# Altium integrated library NSC LDO.IntLib: 1202 symbols (part 15 of 27)
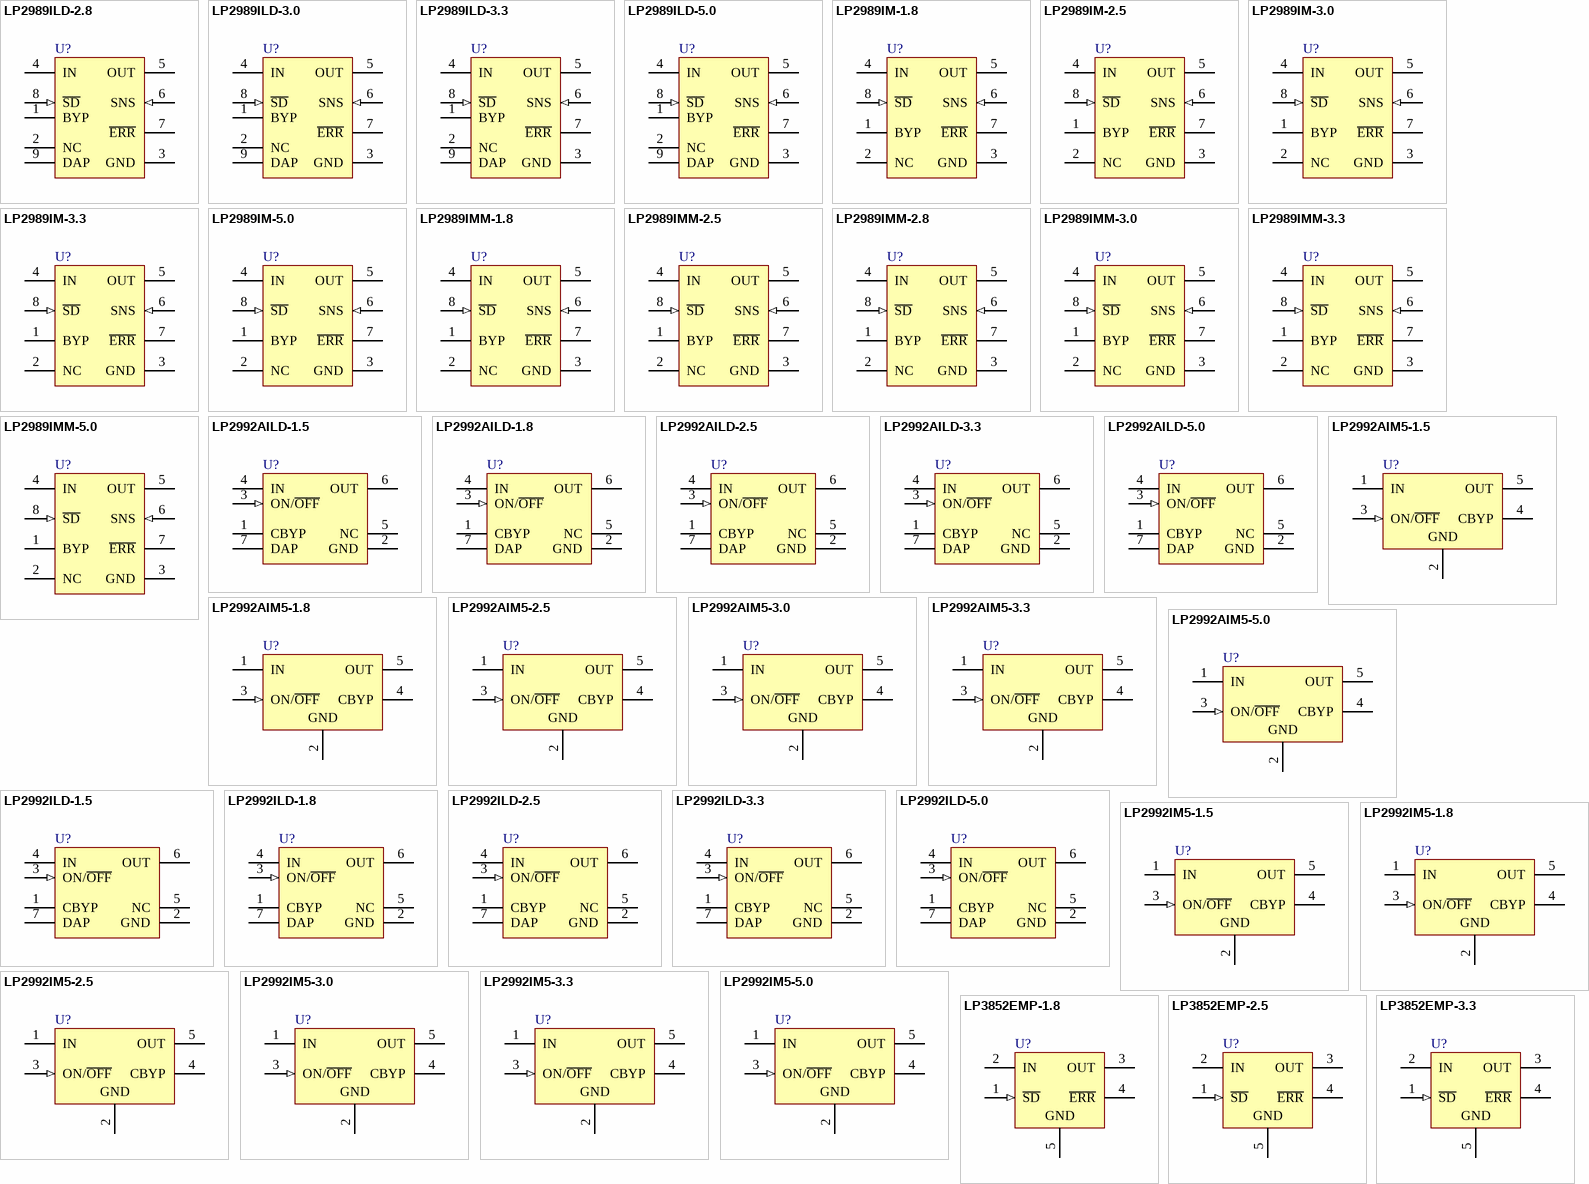
[diagram p44: symbols LP2989ILD-2.8 to LP3852EMP-3.3]

## LP2992IM5-5.0
designator U?
Micropower 250 mA Low-Noise Ultra Low-Dropout Regulator in SOT-23 and LLP Packages; PartNumber: LP2992IM5-5.0; Manufacturer: National Semiconductor; CompType: LDO IC; PackageTopMarking: LFFB*XTT; Published: 4-Dec-2008; DatasheetVersion: May-2005; PackageVersion: revD, Aug-2008; PackageReference: MF05A; Publisher: Altium Limited; PackageDescription: Molded SOT-23, .115 x .063 x .040 in Body, 5 Lead, .0375 in Pitch; RoHS: O; PinCount: 5; DigiKeyPartNumber: LP2992IM5-5.0CT-ND; Code_IPC: SOT23-5; ComponentLink1Description: LP2992 Datasheet; ComponentLink1URL: http://www.national.com/ds/LP/LP2992.pdf; ComponentLink2Description: LP2992 Web Page; ComponentLink2URL: http://www.national.com/pf/LP/LP2992.html; ComponentLink3Description: MF05A Package Page; ComponentLink3URL: http://www.national.com/packaging/folders/mf05a.html
footprint MF05A_N (SOT23, 5-Leads, Body 2.9x1.6mm, Pitch 0.95mm, Lead Span 2.8mm, IPC Medium Density)
footprint MF05A_L (SOT23, 5-Leads, Body 2.9x1.6mm, Pitch 0.95mm, Lead Span 2.8mm, IPC High Density)
footprint MF05A_M (SOT23, 5-Leads, Body 2.9x1.6mm, Pitch 0.95mm, Lead Span 2.8mm, IPC Low Density)
pins: 1 IN (power), 2 GND (power), 3 ON/~{OFF} (in), 4 CBYP, 5 OUT (power)

## LP3852EMP-1.8
designator U?
1.5A Fast Ultra Low Dropout Linear Regulator; PartNumber: LP3852EMP-1.8; Manufacturer: National Semiconductor; CompType: LDO IC; PackageTopMarking: XYTT*LHTB; Published: 4-Dec-2008; DatasheetVersion: Sep-2006; PackageVersion: revA, Jan-2000; PackageReference: MP05A; Publisher: Altium Limited; PackageDescription: Moldec SOT-223, 6.50 x 3.56 x 1.6mm Body, 5 Lead, 1.5mm Pitch; RoHS: O; PinCount: 5; DigiKeyPartNumber: LP3852EMP-1.8CT-ND; Code_JEDEC: TO-261-AB; Code_IPC: SOT223-5; ComponentLink1Description: LP3852 Datasheet; ComponentLink1URL: http://www.national.com/ds/LP/LP3852.pdf; ComponentLink2Description: LP3852 Web Page; ComponentLink2URL: http://www.national.com/pf/LP/LP3852.html; ComponentLink3Description: MP05A Package Page; ComponentLink3URL: http://www.national.com/packaging/folders/mp05a.html
footprint MP05A_N (SOT223, 5-Leads, Body 6.5x3.5mm, Pitch 1.5mm, Lead Span 7mm, IPC Medium Density)
footprint MP05A_L (SOT223, 5-Leads, Body 6.5x3.5mm, Pitch 1.5mm, Lead Span 7mm, IPC High Density)
footprint MP05A_M (SOT223, 5-Leads, Body 6.5x3.5mm, Pitch 1.5mm, Lead Span 7mm, IPC Low Density)
pins: 1 ~{SD} (in), 2 IN (power), 3 OUT (power), 4 ~{ERR} (oc), 5 GND (power)

## LP3852EMP-2.5
designator U?
1.5A Fast Ultra Low Dropout Linear Regulator; PartNumber: LP3852EMP-2.5; Manufacturer: National Semiconductor; CompType: LDO IC; PackageTopMarking: XYTT*LHUB; Published: 4-Dec-2008; DatasheetVersion: Sep-2006; PackageVersion: revA, Jan-2000; PackageReference: MP05A; Publisher: Altium Limited; PackageDescription: Moldec SOT-223, 6.50 x 3.56 x 1.6mm Body, 5 Lead, 1.5mm Pitch; RoHS: O; PinCount: 5; DigiKeyPartNumber: LP3852EMP-2.5CT-ND; Code_JEDEC: TO-261-AB; Code_IPC: SOT223-5; ComponentLink1Description: LP3852 Datasheet; ComponentLink1URL: http://www.national.com/ds/LP/LP3852.pdf; ComponentLink2Description: LP3852 Web Page; ComponentLink2URL: http://www.national.com/pf/LP/LP3852.html; ComponentLink3Description: MP05A Package Page; ComponentLink3URL: http://www.national.com/packaging/folders/mp05a.html
footprint MP05A_N (SOT223, 5-Leads, Body 6.5x3.5mm, Pitch 1.5mm, Lead Span 7mm, IPC Medium Density)
footprint MP05A_L (SOT223, 5-Leads, Body 6.5x3.5mm, Pitch 1.5mm, Lead Span 7mm, IPC High Density)
footprint MP05A_M (SOT223, 5-Leads, Body 6.5x3.5mm, Pitch 1.5mm, Lead Span 7mm, IPC Low Density)
pins: 1 ~{SD} (in), 2 IN (power), 3 OUT (power), 4 ~{ERR} (oc), 5 GND (power)

## LP3852EMP-3.3
designator U?
1.5A Fast Ultra Low Dropout Linear Regulator; PartNumber: LP3852EMP-3.3; Manufacturer: National Semiconductor; CompType: LDO IC; PackageTopMarking: XYTT*LHVB; Published: 4-Dec-2008; DatasheetVersion: Sep-2006; PackageVersion: revA, Jan-2000; PackageReference: MP05A; Publisher: Altium Limited; PackageDescription: Moldec SOT-223, 6.50 x 3.56 x 1.6mm Body, 5 Lead, 1.5mm Pitch; RoHS: Y; PinCount: 5; DigiKeyPartNumber: LP3852EMP-3.3CT-ND; Code_JEDEC: TO-261-AB; Code_IPC: SOT223-5; ComponentLink1Description: LP3852 Datasheet; ComponentLink1URL: http://www.national.com/ds/LP/LP3852.pdf; ComponentLink2Description: LP3852 Web Page; ComponentLink2URL: http://www.national.com/pf/LP/LP3852.html; ComponentLink3Description: MP05A Package Page; ComponentLink3URL: http://www.national.com/packaging/folders/mp05a.html
footprint MP05A_N (SOT223, 5-Leads, Body 6.5x3.5mm, Pitch 1.5mm, Lead Span 7mm, IPC Medium Density)
footprint MP05A_L (SOT223, 5-Leads, Body 6.5x3.5mm, Pitch 1.5mm, Lead Span 7mm, IPC High Density)
footprint MP05A_M (SOT223, 5-Leads, Body 6.5x3.5mm, Pitch 1.5mm, Lead Span 7mm, IPC Low Density)
pins: 1 ~{SD} (in), 2 IN (power), 3 OUT (power), 4 ~{ERR} (oc), 5 GND (power)

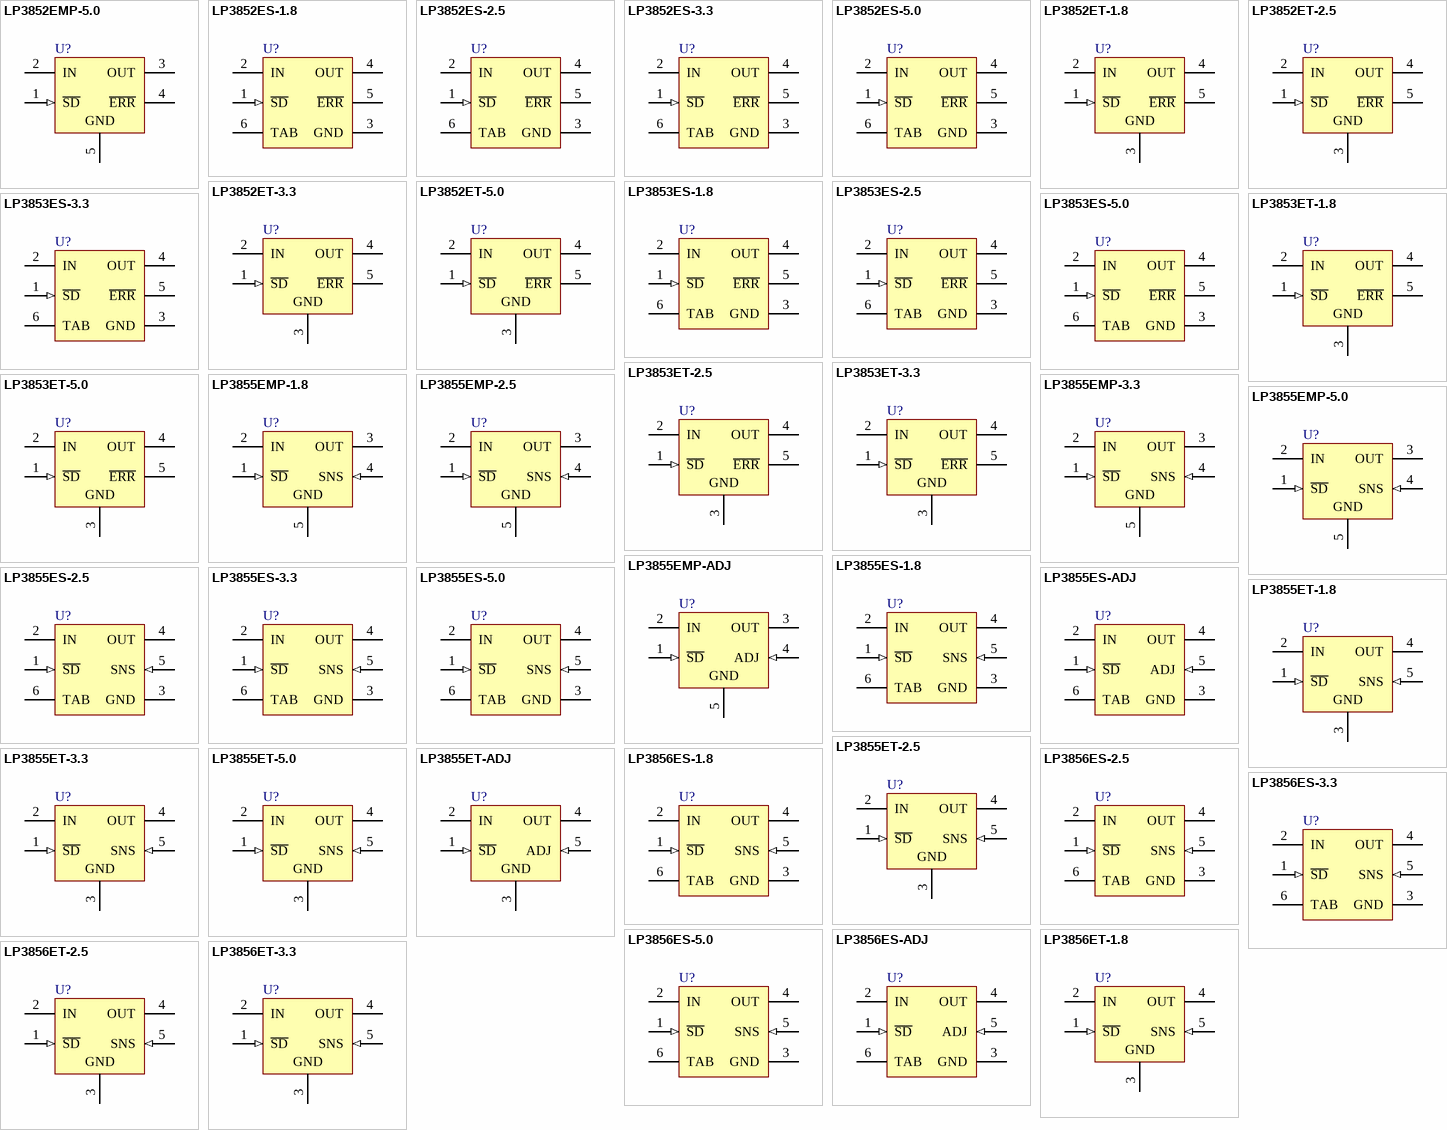
[diagram p16: symbols LP3852EMP-5.0 to LP3856ET-3.3]

## LP3852EMP-5.0
designator U?
1.5A Fast Ultra Low Dropout Linear Regulator; PartNumber: LP3852EMP-5.0; Manufacturer: National Semiconductor; CompType: LDO IC; PackageTopMarking: XYTT*LHXB; Published: 4-Dec-2008; DatasheetVersion: Sep-2006; PackageVersion: revA, Jan-2000; PackageReference: MP05A; Publisher: Altium Limited; PackageDescription: Moldec SOT-223, 6.50 x 3.56 x 1.6mm Body, 5 Lead, 1.5mm Pitch; RoHS: Y; PinCount: 5; DigiKeyPartNumber: LP3852EMP-5.0CT-ND; Code_JEDEC: TO-261-AB; Code_IPC: SOT223-5; ComponentLink1Description: LP3852 Datasheet; ComponentLink1URL: http://www.national.com/ds/LP/LP3852.pdf; ComponentLink2Description: LP3852 Web Page; ComponentLink2URL: http://www.national.com/pf/LP/LP3852.html; ComponentLink3Description: MP05A Package Page; ComponentLink3URL: http://www.national.com/packaging/folders/mp05a.html
footprint MP05A_N (SOT223, 5-Leads, Body 6.5x3.5mm, Pitch 1.5mm, Lead Span 7mm, IPC Medium Density)
footprint MP05A_L (SOT223, 5-Leads, Body 6.5x3.5mm, Pitch 1.5mm, Lead Span 7mm, IPC High Density)
footprint MP05A_M (SOT223, 5-Leads, Body 6.5x3.5mm, Pitch 1.5mm, Lead Span 7mm, IPC Low Density)
pins: 1 ~{SD} (in), 2 IN (power), 3 OUT (power), 4 ~{ERR} (oc), 5 GND (power)

## LP3852ES-1.8
designator U?
1.5A Fast Ultra Low Dropout Linear Regulator; PartNumber: LP3852ES-1.8; Manufacturer: National Semiconductor; CompType: LDO IC; PackageTopMarking: NSUZXYTTE#*LP3852ES*-1.8; Published: 4-Dec-2008; DatasheetVersion: Sep-2006; PackageVersion: revD, Apr-2005; PackageReference: TS5B; Publisher: Altium Limited; PackageDescription: TO-263, Molded, .400 x .390 x .180in, 5 Lead, .067in Pitch, Surface Mount; RoHS: Y; PinCount: 5; DigiKeyPartNumber: LP3852ES-1.8-ND; Code_JEDEC: MO-169-AB; ComponentLink1Description: LP3852 Datasheet; ComponentLink1URL: http://www.national.com/ds/LP/LP3852.pdf; ComponentLink2Description: LP3852 Web Page; ComponentLink2URL: http://www.national.com/pf/LP/LP3852.html; ComponentLink3Description: TS5B Package Page; ComponentLink3URL: http://www.national.com/packaging/folders/ts5b.html
footprint TS5B_N (D2-PAK, 6-Leads, Body 8.6x10.2mm, Pitch 1.7mm, Lead Span 14.1mm, IPC Medium Density)
footprint TS5B_L (D2-PAK, 6-Leads, Body 8.6x10.2mm, Pitch 1.7mm, Lead Span 14.1mm, IPC High Density)
footprint TS5B_M (D2-PAK, 6-Leads, Body 8.6x10.2mm, Pitch 1.7mm, Lead Span 14.1mm, IPC Low Density)
pins: 1 ~{SD} (in), 2 IN (power), 3 GND (power), 4 OUT (power), 5 ~{ERR} (oc), 6 TAB (power)

## LP3852ES-2.5
designator U?
1.5A Fast Ultra Low Dropout Linear Regulator; PartNumber: LP3852ES-2.5; Manufacturer: National Semiconductor; CompType: LDO IC; PackageTopMarking: NSUZXYTTE#*LP3852ES*-2.5; Published: 4-Dec-2008; DatasheetVersion: Sep-2006; PackageVersion: revD, Apr-2005; PackageReference: TS5B; Publisher: Altium Limited; PackageDescription: TO-263, Molded, .400 x .390 x .180in, 5 Lead, .067in Pitch, Surface Mount; RoHS: Y; PinCount: 5; DigiKeyPartNumber: LP3852ES-2.5-ND; Code_JEDEC: MO-169-AB; ComponentLink1Description: LP3852 Datasheet; ComponentLink1URL: http://www.national.com/ds/LP/LP3852.pdf; ComponentLink2Description: LP3852 Web Page; ComponentLink2URL: http://www.national.com/pf/LP/LP3852.html; ComponentLink3Description: TS5B Package Page; ComponentLink3URL: http://www.national.com/packaging/folders/ts5b.html
footprint TS5B_N (D2-PAK, 6-Leads, Body 8.6x10.2mm, Pitch 1.7mm, Lead Span 14.1mm, IPC Medium Density)
footprint TS5B_L (D2-PAK, 6-Leads, Body 8.6x10.2mm, Pitch 1.7mm, Lead Span 14.1mm, IPC High Density)
footprint TS5B_M (D2-PAK, 6-Leads, Body 8.6x10.2mm, Pitch 1.7mm, Lead Span 14.1mm, IPC Low Density)
pins: 1 ~{SD} (in), 2 IN (power), 3 GND (power), 4 OUT (power), 5 ~{ERR} (oc), 6 TAB (power)

## LP3852ES-3.3
designator U?
1.5A Fast Ultra Low Dropout Linear Regulator; PartNumber: LP3852ES-3.3; Manufacturer: National Semiconductor; CompType: LDO IC; PackageTopMarking: NSUZXYTTE#*LP3852ES*-3.3; Published: 4-Dec-2008; DatasheetVersion: Sep-2006; PackageVersion: revD, Apr-2005; PackageReference: TS5B; Publisher: Altium Limited; PackageDescription: TO-263, Molded, .400 x .390 x .180in, 5 Lead, .067in Pitch, Surface Mount; RoHS: Y; PinCount: 5; DigiKeyPartNumber: LP3852ES-3.3-ND; Code_JEDEC: MO-169-AB; ComponentLink1Description: LP3852 Datasheet; ComponentLink1URL: http://www.national.com/ds/LP/LP3852.pdf; ComponentLink2Description: LP3852 Web Page; ComponentLink2URL: http://www.national.com/pf/LP/LP3852.html; ComponentLink3Description: TS5B Package Page; ComponentLink3URL: http://www.national.com/packaging/folders/ts5b.html
footprint TS5B_N (D2-PAK, 6-Leads, Body 8.6x10.2mm, Pitch 1.7mm, Lead Span 14.1mm, IPC Medium Density)
footprint TS5B_L (D2-PAK, 6-Leads, Body 8.6x10.2mm, Pitch 1.7mm, Lead Span 14.1mm, IPC High Density)
footprint TS5B_M (D2-PAK, 6-Leads, Body 8.6x10.2mm, Pitch 1.7mm, Lead Span 14.1mm, IPC Low Density)
pins: 1 ~{SD} (in), 2 IN (power), 3 GND (power), 4 OUT (power), 5 ~{ERR} (oc), 6 TAB (power)

## LP3852ES-5.0
designator U?
1.5A Fast Ultra Low Dropout Linear Regulator; PartNumber: LP3852ES-5.0; Manufacturer: National Semiconductor; CompType: LDO IC; PackageTopMarking: NSUZXYTTE#*LP3852ES*-5.0; Published: 4-Dec-2008; DatasheetVersion: Sep-2006; PackageVersion: revD, Apr-2005; PackageReference: TS5B; Publisher: Altium Limited; PackageDescription: TO-263, Molded, .400 x .390 x .180in, 5 Lead, .067in Pitch, Surface Mount; RoHS: Y; PinCount: 5; DigiKeyPartNumber: LP3852ES-5.0-ND; Code_JEDEC: MO-169-AB; ComponentLink1Description: LP3852 Datasheet; ComponentLink1URL: http://www.national.com/ds/LP/LP3852.pdf; ComponentLink2Description: LP3852 Web Page; ComponentLink2URL: http://www.national.com/pf/LP/LP3852.html; ComponentLink3Description: TS5B Package Page; ComponentLink3URL: http://www.national.com/packaging/folders/ts5b.html
footprint TS5B_N (D2-PAK, 6-Leads, Body 8.6x10.2mm, Pitch 1.7mm, Lead Span 14.1mm, IPC Medium Density)
footprint TS5B_L (D2-PAK, 6-Leads, Body 8.6x10.2mm, Pitch 1.7mm, Lead Span 14.1mm, IPC High Density)
footprint TS5B_M (D2-PAK, 6-Leads, Body 8.6x10.2mm, Pitch 1.7mm, Lead Span 14.1mm, IPC Low Density)
pins: 1 ~{SD} (in), 2 IN (power), 3 GND (power), 4 OUT (power), 5 ~{ERR} (oc), 6 TAB (power)

## LP3852ET-1.8
designator U?
1.5A Fast Ultra Low Dropout Linear Regulator; PartNumber: LP3852ET-1.8; Manufacturer: National Semiconductor; CompType: LDO IC; PackageTopMarking: NSUZXYTTE#*LP3852ET*-1.8; Published: 4-Dec-2008; DatasheetVersion: Sep-2006; PackageVersion: revA, Oct-1989; PackageReference: T05D; Publisher: Altium Limited; PackageDescription: TO-220, Molded, Stagger Bend, 5 Lead; RoHS: Y; PinCount: 5; DigiKeyPartNumber: LP3852ET-1.8-ND; ComponentLink1Description: LP3852 Datasheet; ComponentLink1URL: http://www.national.com/ds/LP/LP3852.pdf; ComponentLink2Description: LP3852 Web Page; ComponentLink2URL: http://www.national.com/pf/LP/LP3852.html; ComponentLink3Description: T05D Package Page; ComponentLink3URL: http://www.national.com/packaging/folders/t05d.html
footprint T05D (TO, Thru-Hole, Vertical, Heatsink Mounted; 5 Bent Staggered Leads; Pitch 1.7 mm)
pins: 1 ~{SD} (in), 2 IN (power), 3 GND (power), 4 OUT (power), 5 ~{ERR} (oc)

## LP3852ET-2.5
designator U?
1.5A Fast Ultra Low Dropout Linear Regulator; PartNumber: LP3852ET-2.5; Manufacturer: National Semiconductor; CompType: LDO IC; PackageTopMarking: NSUZXY; Published: 4-Dec-2008; DatasheetVersion: Sep-2006; PackageVersion: revA, Oct-1989; PackageReference: T05D; Publisher: Altium Limited; PackageDescription: TO-220, Molded, Stagger Bend, 5 Lead; RoHS: Y; PinCount: 5; DigiKeyPartNumber: LP3852ET-2.5-ND; ComponentLink1Description: LP3852 Datasheet; ComponentLink1URL: http://www.national.com/ds/LP/LP3852.pdf; ComponentLink2Description: LP3852 Web Page; ComponentLink2URL: http://www.national.com/pf/LP/LP3852.html; ComponentLink3Description: T05D Package Page; ComponentLink3URL: http://www.national.com/packaging/folders/t05d.html
footprint T05D (TO, Thru-Hole, Vertical, Heatsink Mounted; 5 Bent Staggered Leads; Pitch 1.7 mm)
pins: 1 ~{SD} (in), 2 IN (power), 3 GND (power), 4 OUT (power), 5 ~{ERR} (oc)

## LP3852ET-3.3
designator U?
1.5A Fast Ultra Low Dropout Linear Regulator; PartNumber: LP3852ET-3.3; Manufacturer: National Semiconductor; CompType: LDO IC; PackageTopMarking: NSUZXYTTE#*LP3852ET*-3.3; Published: 4-Dec-2008; DatasheetVersion: Sep-2006; PackageVersion: revA, Oct-1989; PackageReference: T05D; Publisher: Altium Limited; PackageDescription: TO-220, Molded, Stagger Bend, 5 Lead; RoHS: Y; PinCount: 5; DigiKeyPartNumber: LP3852ET-3.3-ND; ComponentLink1Description: LP3852 Datasheet; ComponentLink1URL: http://www.national.com/ds/LP/LP3852.pdf; ComponentLink2Description: LP3852 Web Page; ComponentLink2URL: http://www.national.com/pf/LP/LP3852.html; ComponentLink3Description: T05D Package Page; ComponentLink3URL: http://www.national.com/packaging/folders/t05d.html
footprint T05D (TO, Thru-Hole, Vertical, Heatsink Mounted; 5 Bent Staggered Leads; Pitch 1.7 mm)
pins: 1 ~{SD} (in), 2 IN (power), 3 GND (power), 4 OUT (power), 5 ~{ERR} (oc)

## LP3852ET-5.0
designator U?
1.5A Fast Ultra Low Dropout Linear Regulator; PartNumber: LP3852ET-5.0; Manufacturer: National Semiconductor; CompType: LDO IC; PackageTopMarking: NSUZXYTTE#*LP3852ET*-5.0; Published: 4-Dec-2008; DatasheetVersion: Sep-2006; PackageVersion: revA, Oct-1989; PackageReference: T05D; Publisher: Altium Limited; PackageDescription: TO-220, Molded, Stagger Bend, 5 Lead; RoHS: Y; PinCount: 5; DigiKeyPartNumber: LP3852ET-5.0-ND; ComponentLink1Description: LP3852 Datasheet; ComponentLink1URL: http://www.national.com/ds/LP/LP3852.pdf; ComponentLink2Description: LP3852 Web Page; ComponentLink2URL: http://www.national.com/pf/LP/LP3852.html; ComponentLink3Description: T05D Package Page; ComponentLink3URL: http://www.national.com/packaging/folders/t05d.html
footprint T05D (TO, Thru-Hole, Vertical, Heatsink Mounted; 5 Bent Staggered Leads; Pitch 1.7 mm)
pins: 1 ~{SD} (in), 2 IN (power), 3 GND (power), 4 OUT (power), 5 ~{ERR} (oc)

## LP3853ES-1.8
designator U?
3A Fast Ultra Low Dropout Linear Regulator; PartNumber: LP3853ES-1.8; Manufacturer: National Semiconductor; CompType: LDO IC; PackageTopMarking: NSUZXYTTE#*LP3853ES*-1.8; Published: 4-Dec-2008; DatasheetVersion: Sep-2006; PackageVersion: revD, Apr-2005; PackageReference: TS5B; Publisher: Altium Limited; PackageDescription: TO-263, Molded, .400 x .390 x .180in, 5 Lead, .067in Pitch, Surface Mount; RoHS: O; PinCount: 5; DigiKeyPartNumber: LP3853ES-1.8-ND; Code_JEDEC: MO-169-AB; ComponentLink1Description: LP3853 Datasheet; ComponentLink1URL: http://www.national.com/ds/LP/LP3853.pdf; ComponentLink2Description: LP3853 Web Page; ComponentLink2URL: http://www.national.com/pf/LP/LP3853.html; ComponentLink3Description: TS5B Package Page; ComponentLink3URL: http://www.national.com/packaging/folders/ts5b.html
footprint TS5B_N (D2-PAK, 6-Leads, Body 8.6x10.2mm, Pitch 1.7mm, Lead Span 14.1mm, IPC Medium Density)
footprint TS5B_L (D2-PAK, 6-Leads, Body 8.6x10.2mm, Pitch 1.7mm, Lead Span 14.1mm, IPC High Density)
footprint TS5B_M (D2-PAK, 6-Leads, Body 8.6x10.2mm, Pitch 1.7mm, Lead Span 14.1mm, IPC Low Density)
pins: 1 ~{SD} (in), 2 IN (power), 3 GND (power), 4 OUT (power), 5 ~{ERR} (oc), 6 TAB (power)

## LP3853ES-2.5
designator U?
3A Fast Ultra Low Dropout Linear Regulator; PartNumber: LP3853ES-2.5; Manufacturer: National Semiconductor; CompType: LDO IC; PackageTopMarking: NSUZXYTTE#*LP3853ES*-2.5; Published: 4-Dec-2008; DatasheetVersion: Sep-2006; PackageVersion: revD, Apr-2005; PackageReference: TS5B; Publisher: Altium Limited; PackageDescription: TO-263, Molded, .400 x .390 x .180in, 5 Lead, .067in Pitch, Surface Mount; RoHS: Y; PinCount: 5; DigiKeyPartNumber: LP3853ES-2.5-ND; Code_JEDEC: MO-169-AB; ComponentLink1Description: LP3853 Datasheet; ComponentLink1URL: http://www.national.com/ds/LP/LP3853.pdf; ComponentLink2Description: LP3853 Web Page; ComponentLink2URL: http://www.national.com/pf/LP/LP3853.html; ComponentLink3Description: TS5B Package Page; ComponentLink3URL: http://www.national.com/packaging/folders/ts5b.html
footprint TS5B_N (D2-PAK, 6-Leads, Body 8.6x10.2mm, Pitch 1.7mm, Lead Span 14.1mm, IPC Medium Density)
footprint TS5B_L (D2-PAK, 6-Leads, Body 8.6x10.2mm, Pitch 1.7mm, Lead Span 14.1mm, IPC High Density)
footprint TS5B_M (D2-PAK, 6-Leads, Body 8.6x10.2mm, Pitch 1.7mm, Lead Span 14.1mm, IPC Low Density)
pins: 1 ~{SD} (in), 2 IN (power), 3 GND (power), 4 OUT (power), 5 ~{ERR} (oc), 6 TAB (power)

## LP3853ES-3.3
designator U?
3A Fast Ultra Low Dropout Linear Regulator; PartNumber: LP3853ES-3.3; Manufacturer: National Semiconductor; CompType: LDO IC; PackageTopMarking: NSUZXYTTE#*LP3853ES*-3.3; Published: 4-Dec-2008; DatasheetVersion: Sep-2006; PackageVersion: revD, Apr-2005; PackageReference: TS5B; Publisher: Altium Limited; PackageDescription: TO-263, Molded, .400 x .390 x .180in, 5 Lead, .067in Pitch, Surface Mount; RoHS: O; PinCount: 5; DigiKeyPartNumber: LP3853ES-3.3-ND; Code_JEDEC: MO-169-AB; ComponentLink1Description: LP3853 Datasheet; ComponentLink1URL: http://www.national.com/ds/LP/LP3853.pdf; ComponentLink2Description: LP3853 Web Page; ComponentLink2URL: http://www.national.com/pf/LP/LP3853.html; ComponentLink3Description: TS5B Package Page; ComponentLink3URL: http://www.national.com/packaging/folders/ts5b.html
footprint TS5B_N (D2-PAK, 6-Leads, Body 8.6x10.2mm, Pitch 1.7mm, Lead Span 14.1mm, IPC Medium Density)
footprint TS5B_L (D2-PAK, 6-Leads, Body 8.6x10.2mm, Pitch 1.7mm, Lead Span 14.1mm, IPC High Density)
footprint TS5B_M (D2-PAK, 6-Leads, Body 8.6x10.2mm, Pitch 1.7mm, Lead Span 14.1mm, IPC Low Density)
pins: 1 ~{SD} (in), 2 IN (power), 3 GND (power), 4 OUT (power), 5 ~{ERR} (oc), 6 TAB (power)

## LP3853ES-5.0
designator U?
3A Fast Ultra Low Dropout Linear Regulator; PartNumber: LP3853ES-5.0; Manufacturer: National Semiconductor; CompType: LDO IC; PackageTopMarking: NSUZXYTTE#*LP3853ES*-5.0; Published: 4-Dec-2008; DatasheetVersion: Sep-2006; PackageVersion: revD, Apr-2005; PackageReference: TS5B; Publisher: Altium Limited; PackageDescription: TO-263, Molded, .400 x .390 x .180in, 5 Lead, .067in Pitch, Surface Mount; RoHS: Y; PinCount: 5; DigiKeyPartNumber: LP3853ES-5.0-ND; Code_JEDEC: MO-169-AB; ComponentLink1Description: LP3853 Datasheet; ComponentLink1URL: http://www.national.com/ds/LP/LP3853.pdf; ComponentLink2Description: LP3853 Web Page; ComponentLink2URL: http://www.national.com/pf/LP/LP3853.html; ComponentLink3Description: TS5B Package Page; ComponentLink3URL: http://www.national.com/packaging/folders/ts5b.html
footprint TS5B_N (D2-PAK, 6-Leads, Body 8.6x10.2mm, Pitch 1.7mm, Lead Span 14.1mm, IPC Medium Density)
footprint TS5B_L (D2-PAK, 6-Leads, Body 8.6x10.2mm, Pitch 1.7mm, Lead Span 14.1mm, IPC High Density)
footprint TS5B_M (D2-PAK, 6-Leads, Body 8.6x10.2mm, Pitch 1.7mm, Lead Span 14.1mm, IPC Low Density)
pins: 1 ~{SD} (in), 2 IN (power), 3 GND (power), 4 OUT (power), 5 ~{ERR} (oc), 6 TAB (power)

## LP3853ET-1.8
designator U?
3A Fast Ultra Low Dropout Linear Regulator; PartNumber: LP3853ET-1.8; Manufacturer: National Semiconductor; CompType: LDO IC; PackageTopMarking: NSUZXYTTE#*LP3853ET*-1.8; Published: 4-Dec-2008; DatasheetVersion: Sep-2006; PackageVersion: revA, Oct-1989; PackageReference: T05D; Publisher: Altium Limited; PackageDescription: TO-220, Molded, Stagger Bend, 5 Lead; RoHS: Y; PinCount: 5; DigiKeyPartNumber: LP3853ET-1.8-ND; ComponentLink1Description: LP3853 Datasheet; ComponentLink1URL: http://www.national.com/ds/LP/LP3853.pdf; ComponentLink2Description: LP3853 Web Page; ComponentLink2URL: http://www.national.com/pf/LP/LP3853.html; ComponentLink3Description: T05D Package Page; ComponentLink3URL: http://www.national.com/packaging/folders/t05d.html
footprint T05D (TO, Thru-Hole, Vertical, Heatsink Mounted; 5 Bent Staggered Leads; Pitch 1.7 mm)
pins: 1 ~{SD} (in), 2 IN (power), 3 GND (power), 4 OUT (power), 5 ~{ERR} (oc)

## LP3853ET-2.5
designator U?
3A Fast Ultra Low Dropout Linear Regulator; PartNumber: LP3853ET-2.5; Manufacturer: National Semiconductor; CompType: LDO IC; PackageTopMarking: NSUZXYTTE#*LP3853ET*-2.5; Published: 4-Dec-2008; DatasheetVersion: Sep-2006; PackageVersion: revA, Oct-1989; PackageReference: T05D; Publisher: Altium Limited; PackageDescription: TO-220, Molded, Stagger Bend, 5 Lead; RoHS: Y; PinCount: 5; DigiKeyPartNumber: LP3853ET-2.5-ND; ComponentLink1Description: LP3853 Datasheet; ComponentLink1URL: http://www.national.com/ds/LP/LP3853.pdf; ComponentLink2Description: LP3853 Web Page; ComponentLink2URL: http://www.national.com/pf/LP/LP3853.html; ComponentLink3Description: T05D Package Page; ComponentLink3URL: http://www.national.com/packaging/folders/t05d.html
footprint T05D (TO, Thru-Hole, Vertical, Heatsink Mounted; 5 Bent Staggered Leads; Pitch 1.7 mm)
pins: 1 ~{SD} (in), 2 IN (power), 3 GND (power), 4 OUT (power), 5 ~{ERR} (oc)

## LP3853ET-3.3
designator U?
3A Fast Ultra Low Dropout Linear Regulator; PartNumber: LP3853ET-3.3; Manufacturer: National Semiconductor; CompType: LDO IC; PackageTopMarking: NSUZXYTTE#*LP3853ET*-3.3; Published: 4-Dec-2008; DatasheetVersion: Sep-2006; PackageVersion: revA, Oct-1989; PackageReference: T05D; Publisher: Altium Limited; PackageDescription: TO-220, Molded, Stagger Bend, 5 Lead; RoHS: Y; PinCount: 5; DigiKeyPartNumber: LP3853ET-3.3-ND; ComponentLink1Description: LP3853 Datasheet; ComponentLink1URL: http://www.national.com/ds/LP/LP3853.pdf; ComponentLink2Description: LP3853 Web Page; ComponentLink2URL: http://www.national.com/pf/LP/LP3853.html; ComponentLink3Description: T05D Package Page; ComponentLink3URL: http://www.national.com/packaging/folders/t05d.html
footprint T05D (TO, Thru-Hole, Vertical, Heatsink Mounted; 5 Bent Staggered Leads; Pitch 1.7 mm)
pins: 1 ~{SD} (in), 2 IN (power), 3 GND (power), 4 OUT (power), 5 ~{ERR} (oc)

## LP3853ET-5.0
designator U?
3A Fast Ultra Low Dropout Linear Regulator; PartNumber: LP3853ET-5.0; Manufacturer: National Semiconductor; CompType: LDO IC; PackageTopMarking: NSUZXYTTE#*LP3853ET*-5.0; Published: 4-Dec-2008; DatasheetVersion: Sep-2006; PackageVersion: revA, Oct-1989; PackageReference: T05D; Publisher: Altium Limited; PackageDescription: TO-220, Molded, Stagger Bend, 5 Lead; RoHS: Y; PinCount: 5; DigiKeyPartNumber: LP3853ET-5.0-ND; ComponentLink1Description: LP3853 Datasheet; ComponentLink1URL: http://www.national.com/ds/LP/LP3853.pdf; ComponentLink2Description: LP3853 Web Page; ComponentLink2URL: http://www.national.com/pf/LP/LP3853.html; ComponentLink3Description: T05D Package Page; ComponentLink3URL: http://www.national.com/packaging/folders/t05d.html
footprint T05D (TO, Thru-Hole, Vertical, Heatsink Mounted; 5 Bent Staggered Leads; Pitch 1.7 mm)
pins: 1 ~{SD} (in), 2 IN (power), 3 GND (power), 4 OUT (power), 5 ~{ERR} (oc)

## LP3855EMP-1.8
designator U?
1.5A Fast Ultra Low Dropout Linear Regulator; PartNumber: LP3855EMP-1.8; Manufacturer: National Semiconductor; CompType: LDO IC; PackageTopMarking: XYTT*LHYB; Published: 4-Dec-2008; DatasheetVersion: Sep-2006; PackageVersion: revA, Jan-2000; PackageReference: MP05A; Publisher: Altium Limited; PackageDescription: Moldec SOT-223, 6.50 x 3.56 x 1.6mm Body, 5 Lead, 1.5mm Pitch; RoHS: Y; PinCount: 5; DigiKeyPartNumber: LP3855EMP-1.8CT-ND; Code_JEDEC: TO-261-AB; Code_IPC: SOT223-5; ComponentLink1Description: LP3855 Datasheet; ComponentLink1URL: http://www.national.com/ds/LP/LP3855.pdf; ComponentLink2Description: LP3855 Web Page; ComponentLink2URL: http://www.national.com/pf/LP/LP3855.html; ComponentLink3Description: MP05A Package Page; ComponentLink3URL: http://www.national.com/packaging/folders/mp05a.html
footprint MP05A_N (SOT223, 5-Leads, Body 6.5x3.5mm, Pitch 1.5mm, Lead Span 7mm, IPC Medium Density)
footprint MP05A_L (SOT223, 5-Leads, Body 6.5x3.5mm, Pitch 1.5mm, Lead Span 7mm, IPC High Density)
footprint MP05A_M (SOT223, 5-Leads, Body 6.5x3.5mm, Pitch 1.5mm, Lead Span 7mm, IPC Low Density)
pins: 1 ~{SD} (in), 2 IN (power), 3 OUT (power), 4 SNS (in), 5 GND (power)

## LP3855EMP-2.5
designator U?
1.5A Fast Ultra Low Dropout Linear Regulator; PartNumber: LP3855EMP-2.5; Manufacturer: National Semiconductor; CompType: LDO IC; PackageTopMarking: XYTT*LHZB; Published: 4-Dec-2008; DatasheetVersion: Sep-2006; PackageVersion: revA, Jan-2000; PackageReference: MP05A; Publisher: Altium Limited; PackageDescription: Moldec SOT-223, 6.50 x 3.56 x 1.6mm Body, 5 Lead, 1.5mm Pitch; RoHS: Y; PinCount: 5; DigiKeyPartNumber: LP3855EMP-2.5CT-ND; Code_JEDEC: TO-261-AB; Code_IPC: SOT223-5; ComponentLink1Description: LP3855 Datasheet; ComponentLink1URL: http://www.national.com/ds/LP/LP3855.pdf; ComponentLink2Description: LP3855 Web Page; ComponentLink2URL: http://www.national.com/pf/LP/LP3855.html; ComponentLink3Description: MP05A Package Page; ComponentLink3URL: http://www.national.com/packaging/folders/mp05a.html
footprint MP05A_N (SOT223, 5-Leads, Body 6.5x3.5mm, Pitch 1.5mm, Lead Span 7mm, IPC Medium Density)
footprint MP05A_L (SOT223, 5-Leads, Body 6.5x3.5mm, Pitch 1.5mm, Lead Span 7mm, IPC High Density)
footprint MP05A_M (SOT223, 5-Leads, Body 6.5x3.5mm, Pitch 1.5mm, Lead Span 7mm, IPC Low Density)
pins: 1 ~{SD} (in), 2 IN (power), 3 OUT (power), 4 SNS (in), 5 GND (power)

## LP3855EMP-3.3
designator U?
1.5A Fast Ultra Low Dropout Linear Regulator; PartNumber: LP3855EMP-3.3; Manufacturer: National Semiconductor; CompType: LDO IC; PackageTopMarking: XYTT*LJ1B; Published: 4-Dec-2008; DatasheetVersion: Sep-2006; PackageVersion: revA, Jan-2000; PackageReference: MP05A; Publisher: Altium Limited; PackageDescription: Moldec SOT-223, 6.50 x 3.56 x 1.6mm Body, 5 Lead, 1.5mm Pitch; RoHS: Y; PinCount: 5; DigiKeyPartNumber: LP3855EMP-3.3CT-ND; Code_JEDEC: TO-261-AB; Code_IPC: SOT223-5; ComponentLink1Description: LP3855 Datasheet; ComponentLink1URL: http://www.national.com/ds/LP/LP3855.pdf; ComponentLink2Description: LP3855 Web Page; ComponentLink2URL: http://www.national.com/pf/LP/LP3855.html; ComponentLink3Description: MP05A Package Page; ComponentLink3URL: http://www.national.com/packaging/folders/mp05a.html
footprint MP05A_N (SOT223, 5-Leads, Body 6.5x3.5mm, Pitch 1.5mm, Lead Span 7mm, IPC Medium Density)
footprint MP05A_L (SOT223, 5-Leads, Body 6.5x3.5mm, Pitch 1.5mm, Lead Span 7mm, IPC High Density)
footprint MP05A_M (SOT223, 5-Leads, Body 6.5x3.5mm, Pitch 1.5mm, Lead Span 7mm, IPC Low Density)
pins: 1 ~{SD} (in), 2 IN (power), 3 OUT (power), 4 SNS (in), 5 GND (power)

## LP3855EMP-5.0
designator U?
1.5A Fast Ultra Low Dropout Linear Regulator; PartNumber: LP3855EMP-5.0; Manufacturer: National Semiconductor; CompType: LDO IC; PackageTopMarking: XYTT*LJ2B; Published: 4-Dec-2008; DatasheetVersion: Sep-2006; PackageVersion: revA, Jan-2000; PackageReference: MP05A; Publisher: Altium Limited; PackageDescription: Moldec SOT-223, 6.50 x 3.56 x 1.6mm Body, 5 Lead, 1.5mm Pitch; RoHS: Y; PinCount: 5; DigiKeyPartNumber: LP3855EMP-5.0CT-ND; Code_JEDEC: TO-261-AB; Code_IPC: SOT223-5; ComponentLink1Description: LP3855 Datasheet; ComponentLink1URL: http://www.national.com/ds/LP/LP3855.pdf; ComponentLink2Description: LP3855 Web Page; ComponentLink2URL: http://www.national.com/pf/LP/LP3855.html; ComponentLink3Description: MP05A Package Page; ComponentLink3URL: http://www.national.com/packaging/folders/mp05a.html
footprint MP05A_N (SOT223, 5-Leads, Body 6.5x3.5mm, Pitch 1.5mm, Lead Span 7mm, IPC Medium Density)
footprint MP05A_L (SOT223, 5-Leads, Body 6.5x3.5mm, Pitch 1.5mm, Lead Span 7mm, IPC High Density)
footprint MP05A_M (SOT223, 5-Leads, Body 6.5x3.5mm, Pitch 1.5mm, Lead Span 7mm, IPC Low Density)
pins: 1 ~{SD} (in), 2 IN (power), 3 OUT (power), 4 SNS (in), 5 GND (power)

## LP3855EMP-ADJ
designator U?
1.5A Fast Ultra Low Dropout Linear Regulator; PartNumber: LP3855EMP-ADJ; Manufacturer: National Semiconductor; CompType: LDO IC; PackageTopMarking: XYTT*LJ3B; Published: 4-Dec-2008; DatasheetVersion: Sep-2008; PackageVersion: revA, Jan-2000; PackageReference: MP05A; Publisher: Altium Limited; PackageDescription: Moldec SOT-223, 6.50 x 3.56 x 1.6mm Body, 5 Lead, 1.5mm Pitch; RoHS: Y; PinCount: 5; DigiKeyPartNumber: LP3855EMP-ADJCT-ND; Code_JEDEC: TO-261-AB; Code_IPC: SOT223-5; ComponentLink1Description: LP3855-ADJ Datasheet; ComponentLink1URL: http://www.national.com/ds/LP/LP3855-ADJ.pdf; ComponentLink2Description: LP3855-ADJ Web Page; ComponentLink2URL: http://www.national.com/pf/LP/LP3855-ADJ.html; ComponentLink3Description: MP05A Package Page; ComponentLink3URL: http://www.national.com/packaging/folders/mp05a.html
footprint MP05A_N (SOT223, 5-Leads, Body 6.5x3.5mm, Pitch 1.5mm, Lead Span 7mm, IPC Medium Density)
footprint MP05A_L (SOT223, 5-Leads, Body 6.5x3.5mm, Pitch 1.5mm, Lead Span 7mm, IPC High Density)
footprint MP05A_M (SOT223, 5-Leads, Body 6.5x3.5mm, Pitch 1.5mm, Lead Span 7mm, IPC Low Density)
pins: 1 ~{SD} (in), 2 IN (power), 3 OUT (power), 4 ADJ (in), 5 GND (power)

## LP3855ES-1.8
designator U?
1.5A Fast Ultra Low Dropout Linear Regulator; PartNumber: LP3855ES-1.8; Manufacturer: National Semiconductor; CompType: LDO IC; PackageTopMarking: NSUZXYTTE#*LP3855ES*-1.8; Published: 4-Dec-2008; DatasheetVersion: Sep-2006; PackageVersion: revD, Apr-2005; PackageReference: TS5B; Publisher: Altium Limited; PackageDescription: TO-263, Molded, .400 x .390 x .180in, 5 Lead, .067in Pitch, Surface Mount; RoHS: Y; PinCount: 5; DigiKeyPartNumber: LP3855ES-1.8-ND; Code_JEDEC: MO-169-AB; ComponentLink1Description: LP3855 Datasheet; ComponentLink1URL: http://www.national.com/ds/LP/LP3855.pdf; ComponentLink2Description: LP3855 Web Page; ComponentLink2URL: http://www.national.com/pf/LP/LP3855.html; ComponentLink3Description: TS5B Package Page; ComponentLink3URL: http://www.national.com/packaging/folders/ts5b.html
footprint TS5B_N (D2-PAK, 6-Leads, Body 8.6x10.2mm, Pitch 1.7mm, Lead Span 14.1mm, IPC Medium Density)
footprint TS5B_L (D2-PAK, 6-Leads, Body 8.6x10.2mm, Pitch 1.7mm, Lead Span 14.1mm, IPC High Density)
footprint TS5B_M (D2-PAK, 6-Leads, Body 8.6x10.2mm, Pitch 1.7mm, Lead Span 14.1mm, IPC Low Density)
pins: 1 ~{SD} (in), 2 IN (power), 3 GND (power), 4 OUT (power), 5 SNS (in), 6 TAB (power)

## LP3855ES-2.5
designator U?
1.5A Fast Ultra Low Dropout Linear Regulator; PartNumber: LP3855ES-2.5; Manufacturer: National Semiconductor; CompType: LDO IC; PackageTopMarking: NSUZXYTTE#*LP3855ES*-2.5; Published: 4-Dec-2008; DatasheetVersion: Sep-2006; PackageVersion: revD, Apr-2005; PackageReference: TS5B; Publisher: Altium Limited; PackageDescription: TO-263, Molded, .400 x .390 x .180in, 5 Lead, .067in Pitch, Surface Mount; RoHS: Y; PinCount: 5; DigiKeyPartNumber: LP3855ES-2.5-ND; Code_JEDEC: MO-169-AB; ComponentLink1Description: LP3855 Datasheet; ComponentLink1URL: http://www.national.com/ds/LP/LP3855.pdf; ComponentLink2Description: LP3855 Web Page; ComponentLink2URL: http://www.national.com/pf/LP/LP3855.html; ComponentLink3Description: TS5B Package Page; ComponentLink3URL: http://www.national.com/packaging/folders/ts5b.html
footprint TS5B_N (D2-PAK, 6-Leads, Body 8.6x10.2mm, Pitch 1.7mm, Lead Span 14.1mm, IPC Medium Density)
footprint TS5B_L (D2-PAK, 6-Leads, Body 8.6x10.2mm, Pitch 1.7mm, Lead Span 14.1mm, IPC High Density)
footprint TS5B_M (D2-PAK, 6-Leads, Body 8.6x10.2mm, Pitch 1.7mm, Lead Span 14.1mm, IPC Low Density)
pins: 1 ~{SD} (in), 2 IN (power), 3 GND (power), 4 OUT (power), 5 SNS (in), 6 TAB (power)

## LP3855ES-3.3
designator U?
1.5A Fast Ultra Low Dropout Linear Regulator; PartNumber: LP3855ES-3.3; Manufacturer: National Semiconductor; CompType: LDO IC; PackageTopMarking: NSUZXYTTE#*LP3855ES*-3.3; Published: 4-Dec-2008; DatasheetVersion: Sep-2006; PackageVersion: revD, Apr-2005; PackageReference: TS5B; Publisher: Altium Limited; PackageDescription: TO-263, Molded, .400 x .390 x .180in, 5 Lead, .067in Pitch, Surface Mount; RoHS: Y; PinCount: 5; DigiKeyPartNumber: LP3855ES-3.3-ND; Code_JEDEC: MO-169-AB; ComponentLink1Description: LP3855 Datasheet; ComponentLink1URL: http://www.national.com/ds/LP/LP3855.pdf; ComponentLink2Description: LP3855 Web Page; ComponentLink2URL: http://www.national.com/pf/LP/LP3855.html; ComponentLink3Description: TS5B Package Page; ComponentLink3URL: http://www.national.com/packaging/folders/ts5b.html
footprint TS5B_N (D2-PAK, 6-Leads, Body 8.6x10.2mm, Pitch 1.7mm, Lead Span 14.1mm, IPC Medium Density)
footprint TS5B_L (D2-PAK, 6-Leads, Body 8.6x10.2mm, Pitch 1.7mm, Lead Span 14.1mm, IPC High Density)
footprint TS5B_M (D2-PAK, 6-Leads, Body 8.6x10.2mm, Pitch 1.7mm, Lead Span 14.1mm, IPC Low Density)
pins: 1 ~{SD} (in), 2 IN (power), 3 GND (power), 4 OUT (power), 5 SNS (in), 6 TAB (power)

## LP3855ES-5.0
designator U?
1.5A Fast Ultra Low Dropout Linear Regulator; PartNumber: LP3855ES-5.0; Manufacturer: National Semiconductor; CompType: LDO IC; PackageTopMarking: NSUZXYTTE#*LP3855ES*-5.0; Published: 4-Dec-2008; DatasheetVersion: Sep-2006; PackageVersion: revD, Apr-2005; PackageReference: TS5B; Publisher: Altium Limited; PackageDescription: TO-263, Molded, .400 x .390 x .180in, 5 Lead, .067in Pitch, Surface Mount; RoHS: Y; PinCount: 5; DigiKeyPartNumber: LP3855ES-5.0-ND; Code_JEDEC: MO-169-AB; ComponentLink1Description: LP3855 Datasheet; ComponentLink1URL: http://www.national.com/ds/LP/LP3855.pdf; ComponentLink2Description: LP3855 Web Page; ComponentLink2URL: http://www.national.com/pf/LP/LP3855.html; ComponentLink3Description: TS5B Package Page; ComponentLink3URL: http://www.national.com/packaging/folders/ts5b.html
footprint TS5B_N (D2-PAK, 6-Leads, Body 8.6x10.2mm, Pitch 1.7mm, Lead Span 14.1mm, IPC Medium Density)
footprint TS5B_L (D2-PAK, 6-Leads, Body 8.6x10.2mm, Pitch 1.7mm, Lead Span 14.1mm, IPC High Density)
footprint TS5B_M (D2-PAK, 6-Leads, Body 8.6x10.2mm, Pitch 1.7mm, Lead Span 14.1mm, IPC Low Density)
pins: 1 ~{SD} (in), 2 IN (power), 3 GND (power), 4 OUT (power), 5 SNS (in), 6 TAB (power)

## LP3855ES-ADJ
designator U?
1.5A Fast Ultra Low Dropout Linear Regulator; PartNumber: LP3855ES-ADJ; Manufacturer: National Semiconductor; CompType: LDO IC; PackageTopMarking: NSUZXYTTE#*LP3855ES*-ADJ; Published: 4-Dec-2008; DatasheetVersion: Sep-2008; PackageVersion: revD, Apr-2005; PackageReference: TS5B; Publisher: Altium Limited; PackageDescription: TO-263, Molded, .400 x .390 x .180in, 5 Lead, .067in Pitch, Surface Mount; RoHS: Y; PinCount: 5; DigiKeyPartNumber: LP3855ES-ADJ-ND; Code_JEDEC: MO-169-AB; ComponentLink1Description: LP3855-ADJ Datasheet; ComponentLink1URL: http://www.national.com/ds/LP/LP3855-ADJ.pdf; ComponentLink2Description: LP3855-ADJ Web Page; ComponentLink2URL: http://www.national.com/pf/LP/LP3855-ADJ.html; ComponentLink3Description: TS5B Package Page; ComponentLink3URL: http://www.national.com/packaging/folders/ts5b.html
footprint TS5B_N (D2-PAK, 6-Leads, Body 8.6x10.2mm, Pitch 1.7mm, Lead Span 14.1mm, IPC Medium Density)
footprint TS5B_L (D2-PAK, 6-Leads, Body 8.6x10.2mm, Pitch 1.7mm, Lead Span 14.1mm, IPC High Density)
footprint TS5B_M (D2-PAK, 6-Leads, Body 8.6x10.2mm, Pitch 1.7mm, Lead Span 14.1mm, IPC Low Density)
pins: 1 ~{SD} (in), 2 IN (power), 3 GND (power), 4 OUT (power), 5 ADJ (in), 6 TAB (power)

## LP3855ET-1.8
designator U?
1.5A Fast Ultra Low Dropout Linear Regulator; PartNumber: LP3855ET-1.8; Manufacturer: National Semiconductor; CompType: LDO IC; PackageTopMarking: NSUZXYTTE#*LP3855ET*-1.8; Published: 4-Dec-2008; DatasheetVersion: Sep-2006; PackageVersion: revA, Oct-1989; PackageReference: T05D; Publisher: Altium Limited; PackageDescription: TO-220, Molded, Stagger Bend, 5 Lead; RoHS: Y; PinCount: 5; DigiKeyPartNumber: LP3855ET-1.8-ND; ComponentLink1Description: LP3855 Datasheet; ComponentLink1URL: http://www.national.com/ds/LP/LP3855.pdf; ComponentLink2Description: LP3855 Web Page; ComponentLink2URL: http://www.national.com/pf/LP/LP3855.html; ComponentLink3Description: T05D Package Page; ComponentLink3URL: http://www.national.com/packaging/folders/t05d.html
footprint T05D (TO, Thru-Hole, Vertical, Heatsink Mounted; 5 Bent Staggered Leads; Pitch 1.7 mm)
pins: 1 ~{SD} (in), 2 IN (power), 3 GND (power), 4 OUT (power), 5 SNS (in)

## LP3855ET-2.5
designator U?
1.5A Fast Ultra Low Dropout Linear Regulator; PartNumber: LP3855ET-2.5; Manufacturer: National Semiconductor; CompType: LDO IC; PackageTopMarking: NSUZXYTTE#*LP3855ET*-2.5; Published: 4-Dec-2008; DatasheetVersion: Sep-2006; PackageVersion: revA, Oct-1989; PackageReference: T05D; Publisher: Altium Limited; PackageDescription: TO-220, Molded, Stagger Bend, 5 Lead; RoHS: Y; PinCount: 5; DigiKeyPartNumber: LP3855ET-2.5-ND; ComponentLink1Description: LP3855 Datasheet; ComponentLink1URL: http://www.national.com/ds/LP/LP3855.pdf; ComponentLink2Description: LP3855 Web Page; ComponentLink2URL: http://www.national.com/pf/LP/LP3855.html; ComponentLink3Description: T05D Package Page; ComponentLink3URL: http://www.national.com/packaging/folders/t05d.html
footprint T05D (TO, Thru-Hole, Vertical, Heatsink Mounted; 5 Bent Staggered Leads; Pitch 1.7 mm)
pins: 1 ~{SD} (in), 2 IN (power), 3 GND (power), 4 OUT (power), 5 SNS (in)

## LP3855ET-3.3
designator U?
1.5A Fast Ultra Low Dropout Linear Regulator; PartNumber: LP3855ET-3.3; Manufacturer: National Semiconductor; CompType: LDO IC; PackageTopMarking: NSUZXYTTE#*LP3855ET*-3.3; Published: 4-Dec-2008; DatasheetVersion: Sep-2006; PackageVersion: revA, Oct-1989; PackageReference: T05D; Publisher: Altium Limited; PackageDescription: TO-220, Molded, Stagger Bend, 5 Lead; RoHS: Y; PinCount: 5; DigiKeyPartNumber: LP3855ET-3.3-ND; ComponentLink1Description: LP3855 Datasheet; ComponentLink1URL: http://www.national.com/ds/LP/LP3855.pdf; ComponentLink2Description: LP3855 Web Page; ComponentLink2URL: http://www.national.com/pf/LP/LP3855.html; ComponentLink3Description: T05D Package Page; ComponentLink3URL: http://www.national.com/packaging/folders/t05d.html
footprint T05D (TO, Thru-Hole, Vertical, Heatsink Mounted; 5 Bent Staggered Leads; Pitch 1.7 mm)
pins: 1 ~{SD} (in), 2 IN (power), 3 GND (power), 4 OUT (power), 5 SNS (in)

## LP3855ET-5.0
designator U?
1.5A Fast Ultra Low Dropout Linear Regulator; PartNumber: LP3855ET-5.0; Manufacturer: National Semiconductor; CompType: LDO IC; PackageTopMarking: NSUZXYTTE#*LP3855ET*-5.0; Published: 4-Dec-2008; DatasheetVersion: Sep-2006; PackageVersion: revA, Oct-1989; PackageReference: T05D; Publisher: Altium Limited; PackageDescription: TO-220, Molded, Stagger Bend, 5 Lead; RoHS: Y; PinCount: 5; DigiKeyPartNumber: LP3855ET-5.0-ND; ComponentLink1Description: LP3855 Datasheet; ComponentLink1URL: http://www.national.com/ds/LP/LP3855.pdf; ComponentLink2Description: LP3855 Web Page; ComponentLink2URL: http://www.national.com/pf/LP/LP3855.html; ComponentLink3Description: T05D Package Page; ComponentLink3URL: http://www.national.com/packaging/folders/t05d.html
footprint T05D (TO, Thru-Hole, Vertical, Heatsink Mounted; 5 Bent Staggered Leads; Pitch 1.7 mm)
pins: 1 ~{SD} (in), 2 IN (power), 3 GND (power), 4 OUT (power), 5 SNS (in)

## LP3855ET-ADJ
designator U?
1.5A Fast Ultra Low Dropout Linear Regulator; PartNumber: LP3855ET-ADJ; Manufacturer: National Semiconductor; CompType: LDO IC; PackageTopMarking: NSUZXYTTE#*LP3855ET*-ADJ; Published: 4-Dec-2008; DatasheetVersion: Sep-2008; PackageVersion: revA, Oct-1989; PackageReference: T05D; Publisher: Altium Limited; PackageDescription: TO-220, Molded, Stagger Bend, 5 Lead; RoHS: Y; PinCount: 5; DigiKeyPartNumber: LP3855ET-ADJ-ND; ComponentLink1Description: LP3855-ADJ Datasheet; ComponentLink1URL: http://www.national.com/ds/LP/LP3855-ADJ.pdf; ComponentLink2Description: LP3855-ADJ Web Page; ComponentLink2URL: http://www.national.com/pf/LP/LP3855-ADJ.html; ComponentLink3Description: T05D Package Page; ComponentLink3URL: http://www.national.com/packaging/folders/t05d.html
footprint T05D (TO, Thru-Hole, Vertical, Heatsink Mounted; 5 Bent Staggered Leads; Pitch 1.7 mm)
pins: 1 ~{SD} (in), 2 IN (power), 3 GND (power), 4 OUT (power), 5 ADJ (in)

## LP3856ES-1.8
designator U?
3A Fast Ultra Low Dropout Linear Regulator; PartNumber: LP3856ES-1.8; Manufacturer: National Semiconductor; CompType: LDO IC; PackageTopMarking: NSUZXYTTE#*LP3856ES*-1.8; Published: 4-Dec-2008; DatasheetVersion: Sep-2006; PackageVersion: revD, Apr-2005; PackageReference: TS5B; Publisher: Altium Limited; PackageDescription: TO-263, Molded, .400 x .390 x .180in, 5 Lead, .067in Pitch, Surface Mount; RoHS: Y; PinCount: 5; DigiKeyPartNumber: LP3856ES-1.8-ND; Code_JEDEC: MO-169-AB; ComponentLink1Description: LP3856 Datasheet; ComponentLink1URL: http://www.national.com/ds/LP/LP3856.pdf; ComponentLink2Description: LP3856 Web Page; ComponentLink2URL: http://www.national.com/pf/LP/LP3856.html; ComponentLink3Description: TS5B Package Page; ComponentLink3URL: http://www.national.com/packaging/folders/ts5b.html
footprint TS5B_N (D2-PAK, 6-Leads, Body 8.6x10.2mm, Pitch 1.7mm, Lead Span 14.1mm, IPC Medium Density)
footprint TS5B_L (D2-PAK, 6-Leads, Body 8.6x10.2mm, Pitch 1.7mm, Lead Span 14.1mm, IPC High Density)
footprint TS5B_M (D2-PAK, 6-Leads, Body 8.6x10.2mm, Pitch 1.7mm, Lead Span 14.1mm, IPC Low Density)
pins: 1 ~{SD} (in), 2 IN (power), 3 GND (power), 4 OUT (power), 5 SNS (in), 6 TAB (power)

## LP3856ES-2.5
designator U?
3A Fast Ultra Low Dropout Linear Regulator; PartNumber: LP3856ES-2.5; Manufacturer: National Semiconductor; CompType: LDO IC; PackageTopMarking: NSUZXYTTE#*LP3856ES*-2.5; Published: 4-Dec-2008; DatasheetVersion: Sep-2006; PackageVersion: revD, Apr-2005; PackageReference: TS5B; Publisher: Altium Limited; PackageDescription: TO-263, Molded, .400 x .390 x .180in, 5 Lead, .067in Pitch, Surface Mount; RoHS: Y; PinCount: 5; DigiKeyPartNumber: LP3856ES-2.5-ND; Code_JEDEC: MO-169-AB; ComponentLink1Description: LP3856 Datasheet; ComponentLink1URL: http://www.national.com/ds/LP/LP3856.pdf; ComponentLink2Description: LP3856 Web Page; ComponentLink2URL: http://www.national.com/pf/LP/LP3856.html; ComponentLink3Description: TS5B Package Page; ComponentLink3URL: http://www.national.com/packaging/folders/ts5b.html
footprint TS5B_N (D2-PAK, 6-Leads, Body 8.6x10.2mm, Pitch 1.7mm, Lead Span 14.1mm, IPC Medium Density)
footprint TS5B_L (D2-PAK, 6-Leads, Body 8.6x10.2mm, Pitch 1.7mm, Lead Span 14.1mm, IPC High Density)
footprint TS5B_M (D2-PAK, 6-Leads, Body 8.6x10.2mm, Pitch 1.7mm, Lead Span 14.1mm, IPC Low Density)
pins: 1 ~{SD} (in), 2 IN (power), 3 GND (power), 4 OUT (power), 5 SNS (in), 6 TAB (power)

## LP3856ES-3.3
designator U?
3A Fast Ultra Low Dropout Linear Regulator; PartNumber: LP3856ES-3.3; Manufacturer: National Semiconductor; CompType: LDO IC; PackageTopMarking: NSUZXYTTE#*LP3856ES*-3.3; Published: 4-Dec-2008; DatasheetVersion: Sep-2006; PackageVersion: revD, Apr-2005; PackageReference: TS5B; Publisher: Altium Limited; PackageDescription: TO-263, Molded, .400 x .390 x .180in, 5 Lead, .067in Pitch, Surface Mount; RoHS: Y; PinCount: 5; DigiKeyPartNumber: LP3856ES-3.3-ND; Code_JEDEC: MO-169-AB; ComponentLink1Description: LP3856 Datasheet; ComponentLink1URL: http://www.national.com/ds/LP/LP3856.pdf; ComponentLink2Description: LP3856 Web Page; ComponentLink2URL: http://www.national.com/pf/LP/LP3856.html; ComponentLink3Description: TS5B Package Page; ComponentLink3URL: http://www.national.com/packaging/folders/ts5b.html
footprint TS5B_N (D2-PAK, 6-Leads, Body 8.6x10.2mm, Pitch 1.7mm, Lead Span 14.1mm, IPC Medium Density)
footprint TS5B_L (D2-PAK, 6-Leads, Body 8.6x10.2mm, Pitch 1.7mm, Lead Span 14.1mm, IPC High Density)
footprint TS5B_M (D2-PAK, 6-Leads, Body 8.6x10.2mm, Pitch 1.7mm, Lead Span 14.1mm, IPC Low Density)
pins: 1 ~{SD} (in), 2 IN (power), 3 GND (power), 4 OUT (power), 5 SNS (in), 6 TAB (power)

## LP3856ES-5.0
designator U?
3A Fast Ultra Low Dropout Linear Regulator; PartNumber: LP3856ES-5.0; Manufacturer: National Semiconductor; CompType: LDO IC; PackageTopMarking: NSUZXYTTE#*LP3856ES*-5.0; Published: 4-Dec-2008; DatasheetVersion: Sep-2006; PackageVersion: revD, Apr-2005; PackageReference: TS5B; Publisher: Altium Limited; PackageDescription: TO-263, Molded, .400 x .390 x .180in, 5 Lead, .067in Pitch, Surface Mount; RoHS: Y; PinCount: 5; DigiKeyPartNumber: LP3856ES-5.0-ND; Code_JEDEC: MO-169-AB; ComponentLink1Description: LP3856 Datasheet; ComponentLink1URL: http://www.national.com/ds/LP/LP3856.pdf; ComponentLink2Description: LP3856 Web Page; ComponentLink2URL: http://www.national.com/pf/LP/LP3856.html; ComponentLink3Description: TS5B Package Page; ComponentLink3URL: http://www.national.com/packaging/folders/ts5b.html
footprint TS5B_N (D2-PAK, 6-Leads, Body 8.6x10.2mm, Pitch 1.7mm, Lead Span 14.1mm, IPC Medium Density)
footprint TS5B_L (D2-PAK, 6-Leads, Body 8.6x10.2mm, Pitch 1.7mm, Lead Span 14.1mm, IPC High Density)
footprint TS5B_M (D2-PAK, 6-Leads, Body 8.6x10.2mm, Pitch 1.7mm, Lead Span 14.1mm, IPC Low Density)
pins: 1 ~{SD} (in), 2 IN (power), 3 GND (power), 4 OUT (power), 5 SNS (in), 6 TAB (power)

## LP3856ES-ADJ
designator U?
3A Fast Ultra Low Dropout Linear Regulator; PartNumber: LP3856ES-ADJ; Manufacturer: National Semiconductor; CompType: LDO IC; PackageTopMarking: NSUZXYTTE#*LP3856ES*-ADJ; Published: 4-Dec-2008; DatasheetVersion: Sep-2006; PackageVersion: revD, Apr-2005; PackageReference: TS5B; Publisher: Altium Limited; PackageDescription: TO-263, Molded, .400 x .390 x .180in, 5 Lead, .067in Pitch, Surface Mount; RoHS: Y; PinCount: 5; DigiKeyPartNumber: LP3856ES-ADJ-ND; Code_JEDEC: MO-169-AB; ComponentLink1Description: LP3856-ADJ Datasheet; ComponentLink1URL: http://www.national.com/ds/LP/LP3856-ADJ.pdf; ComponentLink2Description: LP3856-ADJ Web Page; ComponentLink2URL: http://www.national.com/pf/LP/LP3856-ADJ.html; ComponentLink3Description: TS5B Package Page; ComponentLink3URL: http://www.national.com/packaging/folders/ts5b.html
footprint TS5B_N (D2-PAK, 6-Leads, Body 8.6x10.2mm, Pitch 1.7mm, Lead Span 14.1mm, IPC Medium Density)
footprint TS5B_L (D2-PAK, 6-Leads, Body 8.6x10.2mm, Pitch 1.7mm, Lead Span 14.1mm, IPC High Density)
footprint TS5B_M (D2-PAK, 6-Leads, Body 8.6x10.2mm, Pitch 1.7mm, Lead Span 14.1mm, IPC Low Density)
pins: 1 ~{SD} (in), 2 IN (power), 3 GND (power), 4 OUT (power), 5 ADJ (in), 6 TAB (power)

## LP3856ET-1.8
designator U?
3A Fast Ultra Low Dropout Linear Regulator; PartNumber: LP3856ET-1.8; Manufacturer: National Semiconductor; CompType: LDO IC; PackageTopMarking: NSUZXYTTE#*LP3856ET*-1.8; Published: 4-Dec-2008; DatasheetVersion: Sep-2006; PackageVersion: revA, Oct-1989; PackageReference: T05D; Publisher: Altium Limited; PackageDescription: TO-220, Molded, Stagger Bend, 5 Lead; RoHS: Y; PinCount: 5; DigiKeyPartNumber: LP3856ET-1.8-ND; ComponentLink1Description: LP3856 Datasheet; ComponentLink1URL: http://www.national.com/ds/LP/LP3856.pdf; ComponentLink2Description: LP3856 Web Page; ComponentLink2URL: http://www.national.com/pf/LP/LP3856.html; ComponentLink3Description: T05D Package Page; ComponentLink3URL: http://www.national.com/packaging/folders/t05d.html
footprint T05D (TO, Thru-Hole, Vertical, Heatsink Mounted; 5 Bent Staggered Leads; Pitch 1.7 mm)
pins: 1 ~{SD} (in), 2 IN (power), 3 GND (power), 4 OUT (power), 5 SNS (in)

## LP3856ET-2.5
designator U?
3A Fast Ultra Low Dropout Linear Regulator; PartNumber: LP3856ET-2.5; Manufacturer: National Semiconductor; CompType: LDO IC; PackageTopMarking: NSUZXYTTE#*LP3856ET*-2.5; Published: 4-Dec-2008; DatasheetVersion: Sep-2006; PackageVersion: revA, Oct-1989; PackageReference: T05D; Publisher: Altium Limited; PackageDescription: TO-220, Molded, Stagger Bend, 5 Lead; RoHS: Y; PinCount: 5; DigiKeyPartNumber: LP3856ET-2.5-ND; ComponentLink1Description: LP3856 Datasheet; ComponentLink1URL: http://www.national.com/ds/LP/LP3856.pdf; ComponentLink2Description: LP3856 Web Page; ComponentLink2URL: http://www.national.com/pf/LP/LP3856.html; ComponentLink3Description: T05D Package Page; ComponentLink3URL: http://www.national.com/packaging/folders/t05d.html
footprint T05D (TO, Thru-Hole, Vertical, Heatsink Mounted; 5 Bent Staggered Leads; Pitch 1.7 mm)
pins: 1 ~{SD} (in), 2 IN (power), 3 GND (power), 4 OUT (power), 5 SNS (in)

## LP3856ET-3.3
designator U?
3A Fast Ultra Low Dropout Linear Regulator; PartNumber: LP3856ET-3.3; Manufacturer: National Semiconductor; CompType: LDO IC; PackageTopMarking: NSUZXYTTE#*LP3856ET*-3.3; Published: 4-Dec-2008; DatasheetVersion: Sep-2006; PackageVersion: revA, Oct-1989; PackageReference: T05D; Publisher: Altium Limited; PackageDescription: TO-220, Molded, Stagger Bend, 5 Lead; RoHS: Y; PinCount: 5; DigiKeyPartNumber: LP3856ET-3.3-ND; ComponentLink1Description: LP3856 Datasheet; ComponentLink1URL: http://www.national.com/ds/LP/LP3856.pdf; ComponentLink2Description: LP3856 Web Page; ComponentLink2URL: http://www.national.com/pf/LP/LP3856.html; ComponentLink3Description: T05D Package Page; ComponentLink3URL: http://www.national.com/packaging/folders/t05d.html
footprint T05D (TO, Thru-Hole, Vertical, Heatsink Mounted; 5 Bent Staggered Leads; Pitch 1.7 mm)
pins: 1 ~{SD} (in), 2 IN (power), 3 GND (power), 4 OUT (power), 5 SNS (in)

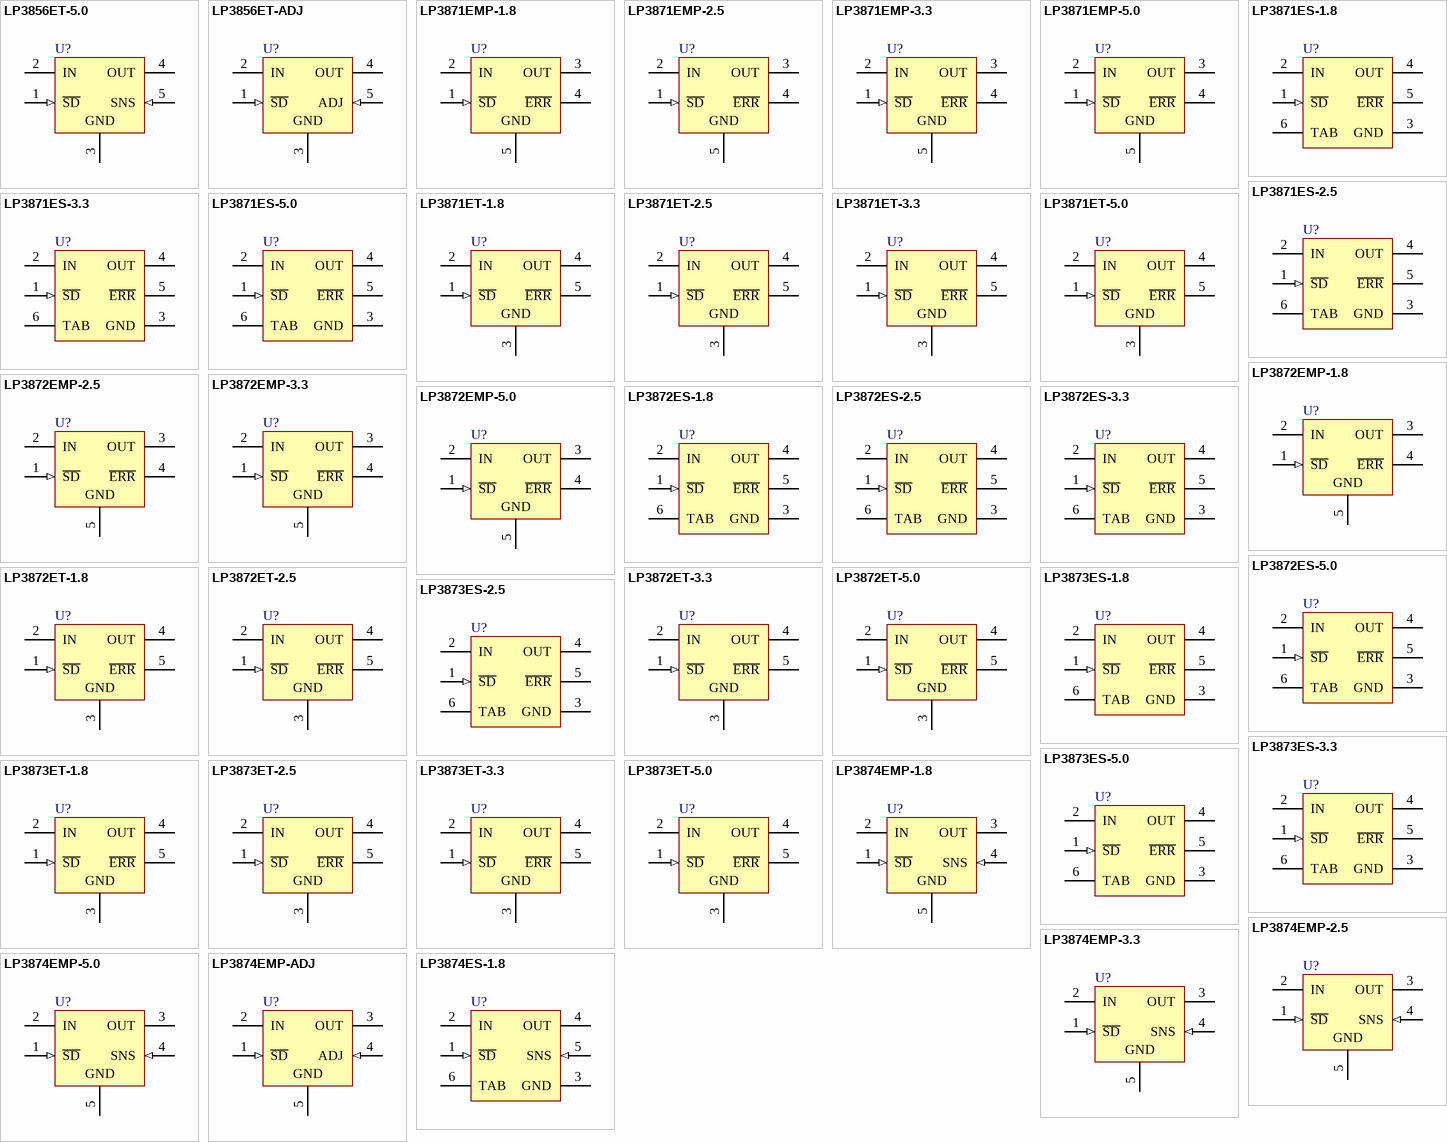
[diagram p17: symbols LP3856ET-5.0 to LP3874ES-1.8]